# EAGLE library part 80C517NA (library micro-siemens)
MICROPROCESSOR/PERIPHERAL DEVICE
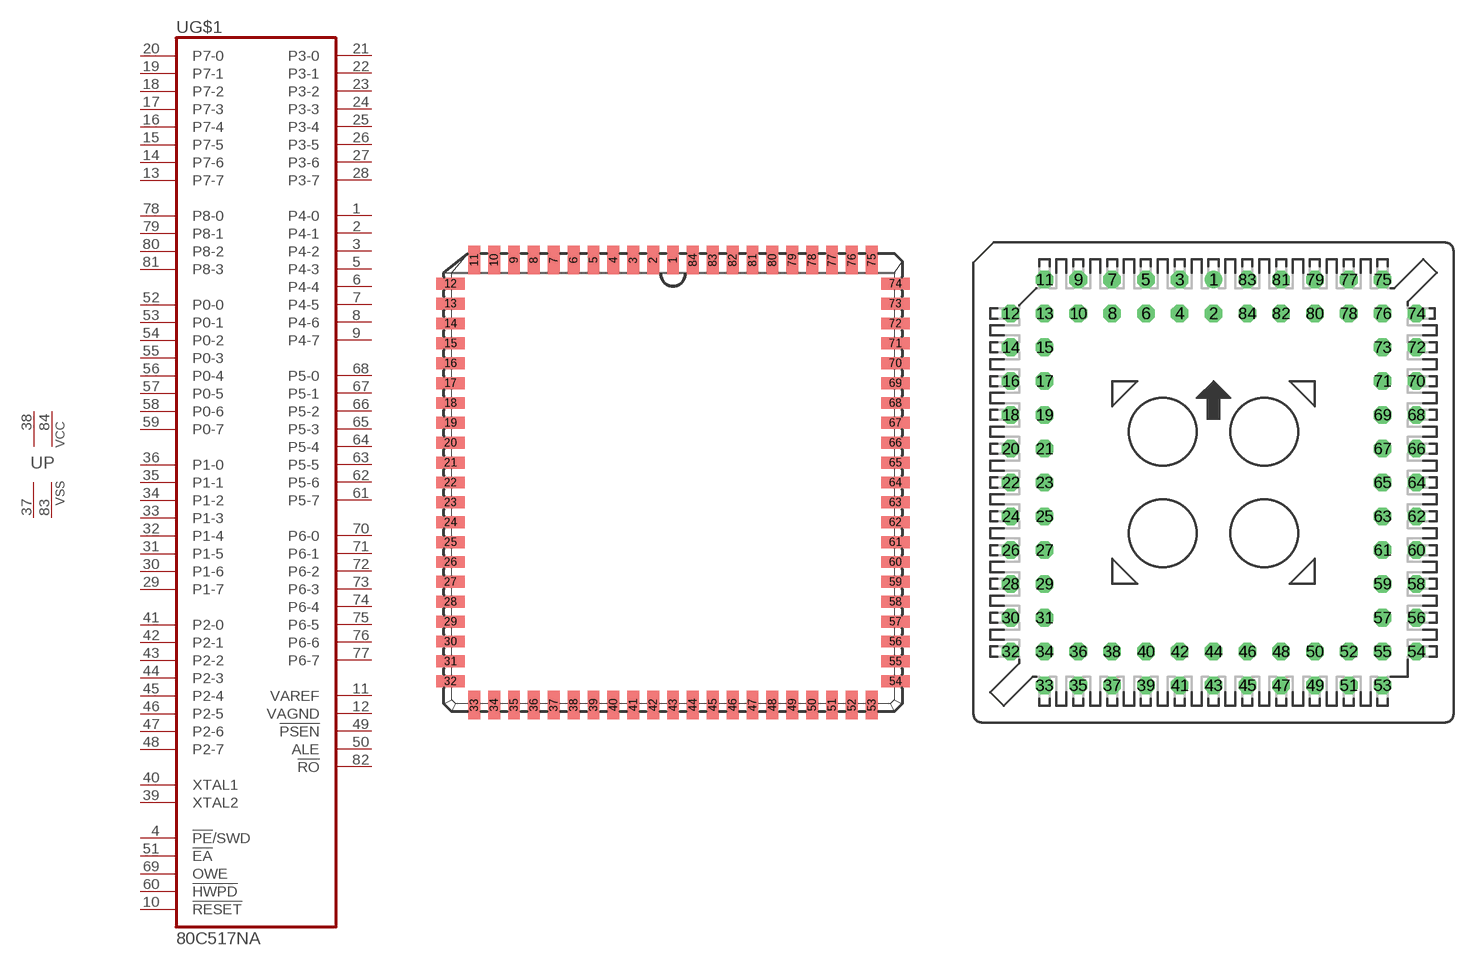
[diagram p8: symbol with the pads of PLCC84; footprints PLCC84, PLCC84SOCK]

Designator prefix U; gates G$1=80C517NA P=2VCC2VSS

## 80C517NA  [PLCC84]
1  G$1:P4-0
2  G$1:P4-1
3  G$1:P4-2
4  G$1:!PE!/SWD  in
5  G$1:P4-3
6  G$1:P4-4
7  G$1:P4-5
8  G$1:P4-6
9  G$1:P4-7
10  G$1:!RESET  in
11  G$1:VAREF  pas
12  G$1:VAGND  pas
13  G$1:P7-7  in
14  G$1:P7-6  in
15  G$1:P7-5  in
16  G$1:P7-4  in
17  G$1:P7-3  in
18  G$1:P7-2  in
19  G$1:P7-1  in
20  G$1:P7-0  in
21  G$1:P3-0
22  G$1:P3-1
23  G$1:P3-2
24  G$1:P3-3
25  G$1:P3-4
26  G$1:P3-5
27  G$1:P3-6
28  G$1:P3-7
29  G$1:P1-7
30  G$1:P1-6
31  G$1:P1-5
32  G$1:P1-4
33  G$1:P1-3
34  G$1:P1-2
35  G$1:P1-1
36  G$1:P1-0
37  P:VSS  pwr
38  P:VCC  pwr
39  G$1:XTAL2  pas
40  G$1:XTAL1  pas
41  G$1:P2-0
42  G$1:P2-1
43  G$1:P2-2
44  G$1:P2-3
45  G$1:P2-4
46  G$1:P2-5
47  G$1:P2-6
48  G$1:P2-7
49  G$1:!PSEN  out
50  G$1:ALE  out
51  G$1:!EA  in
52  G$1:P0-0
53  G$1:P0-1
54  G$1:P0-2
55  G$1:P0-3
56  G$1:P0-4
57  G$1:P0-5
58  G$1:P0-6
59  G$1:P0-7
60  G$1:!HWPD  in
61  G$1:P5-7
62  G$1:P5-6
63  G$1:P5-5
64  G$1:P5-4
65  G$1:P5-3
66  G$1:P5-2
67  G$1:P5-1
68  G$1:P5-0
69  G$1:OWE  in
70  G$1:P6-0
71  G$1:P6-1
72  G$1:P6-2
73  G$1:P6-3
74  G$1:P6-4
75  G$1:P6-5
76  G$1:P6-6
77  G$1:P6-7
78  G$1:P8-0  in
79  G$1:P8-1  in
80  G$1:P8-2  in
81  G$1:P8-3  in
82  G$1:!RO  out
83  P:VSS  pwr
84  P:VCC  pwr

## 80C517NASOC  [PLCC84SOCK]
Pads as for PLCC84

## Footprint PLCC84 (pad centres in mm)
PLASTIC LEADED CHIP CARRIER square
smd 0.76 x 1.8: 1 0,14.21; 2 -1.27,14.21; 3 -2.54,14.21; 4 -3.81,14.21; 5 -5.08,14.21; 6 -6.35,14.21; 7 -7.62,14.21; 8 -8.89,14.21; 9 -10.16,14.21; 10 -11.43,14.21; 11 -12.7,14.21; 33 -12.7,-14.21; 34 -11.43,-14.21; 35 -10.16,-14.21; 36 -8.89,-14.21; 37 -7.62,-14.21; 38 -6.35,-14.21; 39 -5.08,-14.21; 40 -3.81,-14.21; 41 -2.54,-14.21; 42 -1.27,-14.21; 43 0,-14.21; 44 1.27,-14.21; 45 2.54,-14.21; 46 3.81,-14.21; 47 5.08,-14.21; 48 6.35,-14.21; 49 7.62,-14.21; 50 8.89,-14.21; 51 10.16,-14.21; 52 11.43,-14.21; 53 12.7,-14.21; 75 12.7,14.21; 76 11.43,14.21; 77 10.16,14.21; 78 8.89,14.21; 79 7.62,14.21; 80 6.35,14.21; 81 5.08,14.21; 82 3.81,14.21; 83 2.54,14.21; 84 1.27,14.21
smd 1.8 x 0.76: 12 -14.21,12.7; 13 -14.21,11.43; 14 -14.21,10.16; 15 -14.21,8.89; 16 -14.21,7.62; 17 -14.21,6.35; 18 -14.21,5.08; 19 -14.21,3.81; 20 -14.21,2.54; 21 -14.21,1.27; 22 -14.21,0; 23 -14.21,-1.27; 24 -14.21,-2.54; 25 -14.21,-3.81; 26 -14.21,-5.08; 27 -14.21,-6.35; 28 -14.21,-7.62; 29 -14.21,-8.89; 30 -14.21,-10.16; 31 -14.21,-11.43; 32 -14.21,-12.7; 54 14.21,-12.7; 55 14.21,-11.43; 56 14.21,-10.16; 57 14.21,-8.89; 58 14.21,-7.62; 59 14.21,-6.35; 60 14.21,-5.08; 61 14.21,-3.81; 62 14.21,-2.54; 63 14.21,-1.27; 64 14.21,0; 65 14.21,1.27; 66 14.21,2.54; 67 14.21,3.81; 68 14.21,5.08; 69 14.21,6.35; 70 14.21,7.62; 71 14.21,8.89; 72 14.21,10.16; 73 14.21,11.43; 74 14.21,12.7

## Footprint PLCC84SOCK (pad centres in mm)
PLCC 84 socked
drill 0.813: 1 0,15.24
drill 0.813 octagon: 2 0,12.7; 3 -2.54,15.24; 4 -2.54,12.7; 5 -5.08,15.24; 6 -5.08,12.7; 7 -7.62,15.24; 8 -7.62,12.7; 9 -10.16,15.24; 10 -10.16,12.7; 11 -12.7,15.24; 12 -15.24,12.7; 13 -12.7,12.7; 14 -15.24,10.16; 15 -12.7,10.16; 16 -15.24,7.62; 17 -12.7,7.62; 18 -15.24,5.08; 19 -12.7,5.08; 20 -15.24,2.54; 21 -12.7,2.54; 22 -15.24,0; 23 -12.7,0; 24 -15.24,-2.54; 25 -12.7,-2.54; 26 -15.24,-5.08; 27 -12.7,-5.08; 28 -15.24,-7.62; 29 -12.7,-7.62; 30 -15.24,-10.16; 31 -12.7,-10.16; 32 -15.24,-12.7; 33 -12.7,-15.24; 34 -12.7,-12.7; 35 -10.16,-15.24; 36 -10.16,-12.7; 37 -7.62,-15.24; 38 -7.62,-12.7; 39 -5.08,-15.24; 40 -5.08,-12.7; 41 -2.54,-15.24; 42 -2.54,-12.7; 43 0,-15.24; 44 0,-12.7; 45 2.54,-15.24; 46 2.54,-12.7; 47 5.08,-15.24; 48 5.08,-12.7; 49 7.62,-15.24; 50 7.62,-12.7; 51 10.16,-15.24; 52 10.16,-12.7; 53 12.7,-15.24; 54 15.24,-12.7; 55 12.7,-12.7; 56 15.24,-10.16; 57 12.7,-10.16; 58 15.24,-7.62; 59 12.7,-7.62; 60 15.24,-5.08; 61 12.7,-5.08; 62 15.24,-2.54; 63 12.7,-2.54; 64 15.24,0; 65 12.7,0; 66 15.24,2.54; 67 12.7,2.54; 68 15.24,5.08; 69 12.7,5.08; 70 15.24,7.62; 71 12.7,7.62; 72 15.24,10.16; 73 12.7,10.16; 74 15.24,12.7; 75 12.7,15.24; 76 12.7,12.7; 77 10.16,15.24; 78 10.16,12.7; 79 7.62,15.24; 80 7.62,12.7; 81 5.08,15.24; 82 5.08,12.7; 83 2.54,15.24; 84 2.54,12.7